# EAGLE library part S11B-PH-* (library jst-ph)
Wire-to-Board 2.0mm pitch side mount connector Source: http://www.jst-mfg.com/product/pdf/jpn/PH.pdf http://www.jst-mfg.com/product/detail.php?series=199
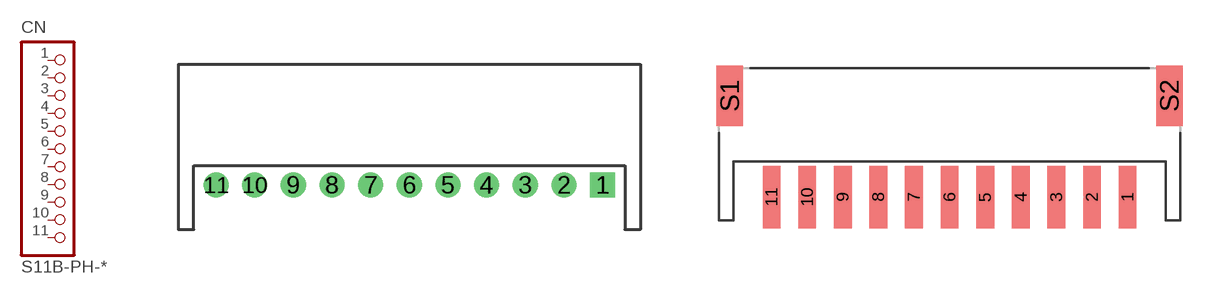
[diagram p16: symbol with the pads of S11B-PH-K-S; footprints S11B-PH-K-S, S11B-PH-SM4-TB]

Designator prefix CN

## S11B-PH-K-S  [S11B-PH-K-S]
1  1  pas
2  2  pas
3  3  pas
4  4  pas
5  5  pas
6  6  pas
7  7  pas
8  8  pas
9  9  pas
10  10  pas
11  11  pas

## S11B-PH-SM4-TB  [S11B-PH-SM4-TB]
Pads as for S11B-PH-K-S

## Footprint S11B-PH-K-S (pad centres in mm)
drill 0.8 square: 1 10,0
drill 0.8: 2 8,0; 3 6,0; 4 4,0; 5 2,0; 6 0,0; 7 -2,0; 8 -4,0; 9 -6,0; 10 -8,0; 11 -10,0

## Footprint S11B-PH-SM4-TB (pad centres in mm)
smd 1 x 3.5: 1 10,-1; 2 8,-1; 3 6,-1; 4 4,-1; 5 2,-1; 6 0,-1; 7 -2,-1; 8 -4,-1; 9 -6,-1; 10 -8,-1; 11 -10,-1
smd 1.5 x 3.4: S1 -12.35,4.7; S2 12.35,4.7